# Altium schematic symbol library SparkFun-Resistors.SCHLIB: 269 symbols (part 1 of 3)
Pins are listed as number, name and electrical type; pins without a type are passive.

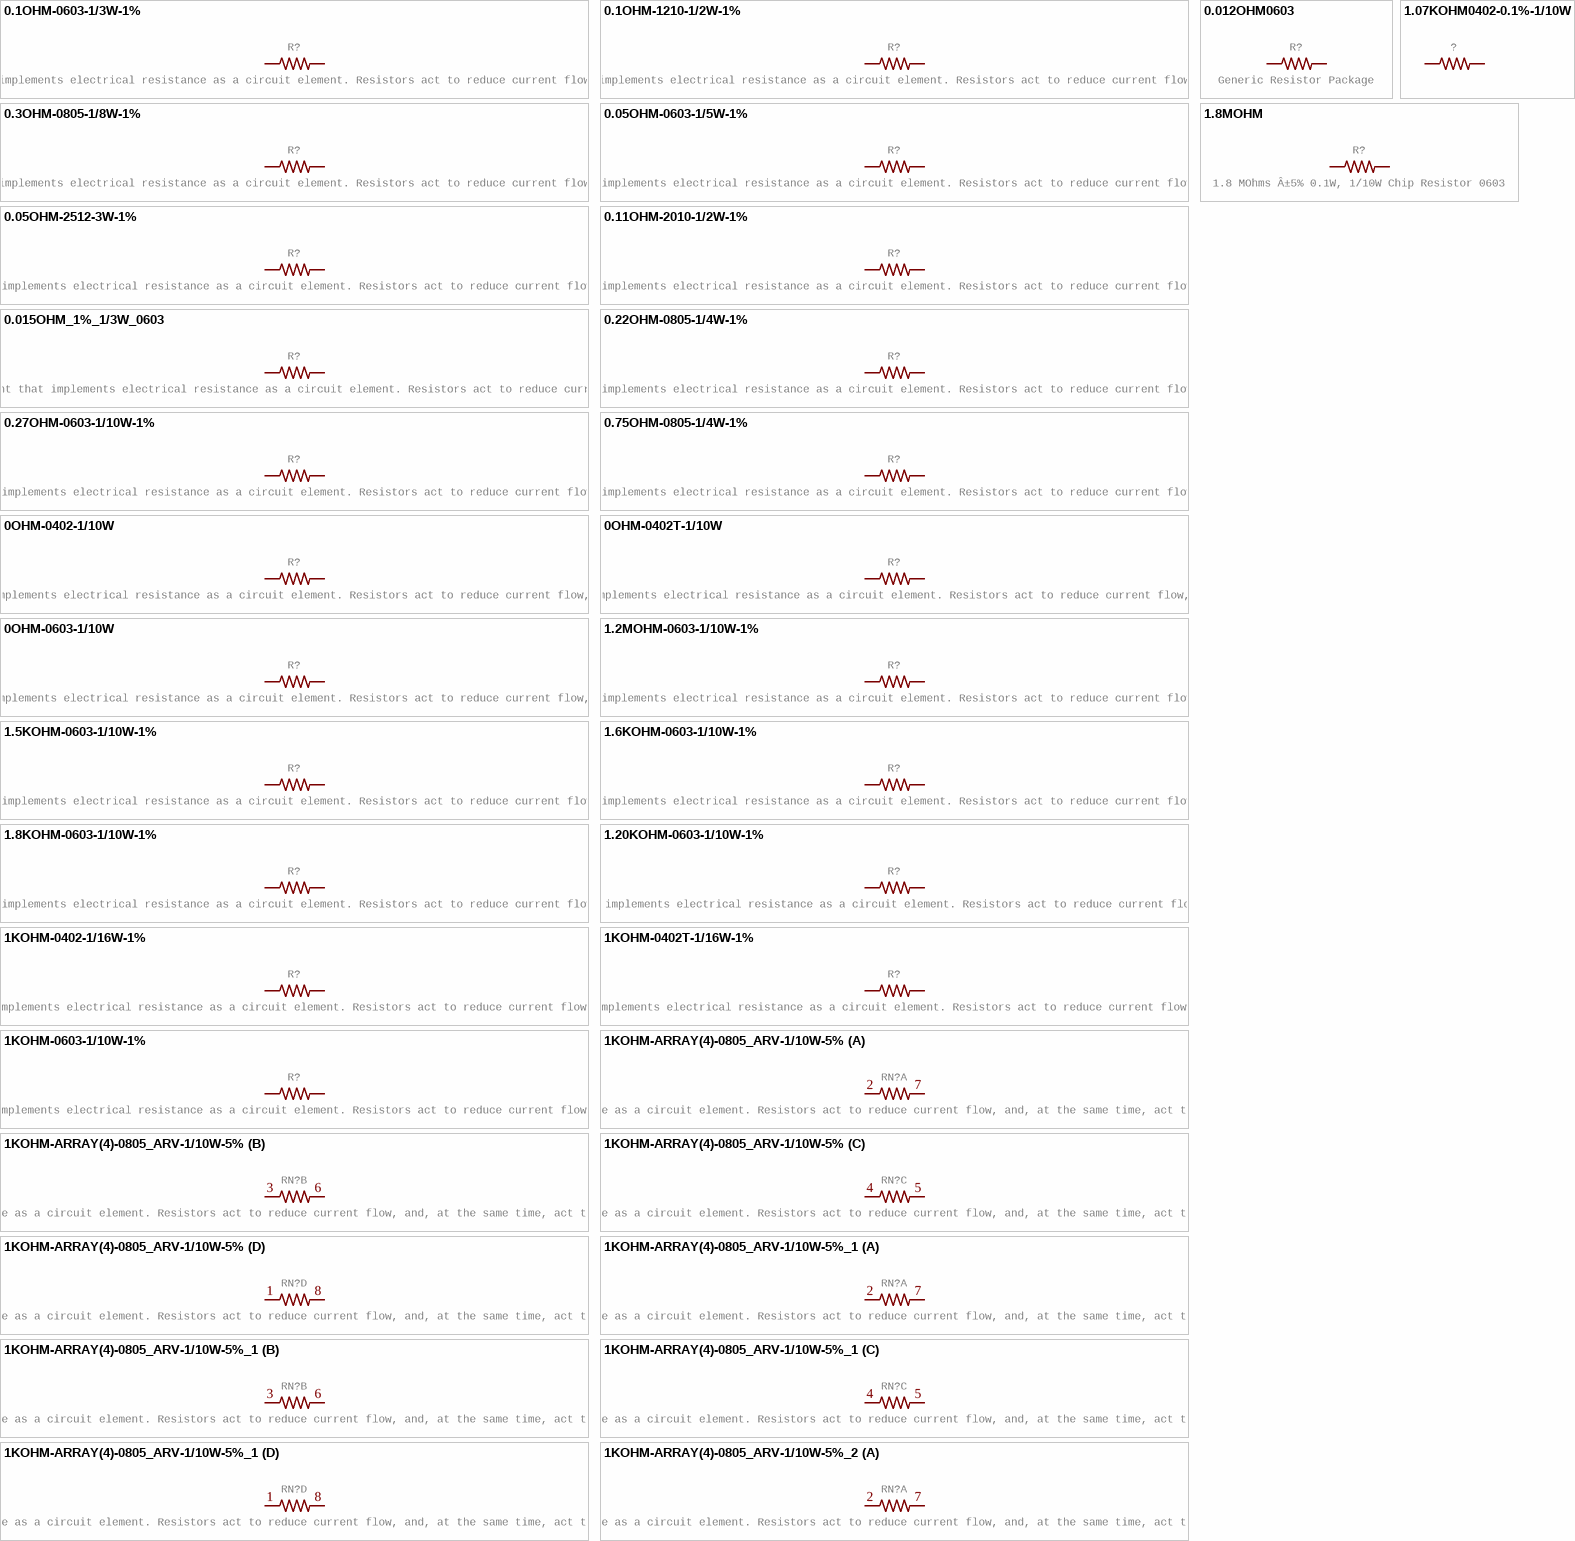
[diagram p0: symbols 0.1OHM-0603-1/3W-1% to 1KOHM-ARRAY(4)-0805_ARV-1/10W-5%_2]

## 0.1OHM-0603-1/3W-1%
designator R?, comment 0.1Î© resistor    A resistor is a passive two-terminal electrical component that implements electrical resistance as a circuit element. Resistors act to reduce current flow, and, at the same time, act to lower voltage levels within circuits. - Wikipedia
GateName_1: G$1; DeviceName: -0603-1/3W-1%; DeviceSetName: 0.1OHM; PROD_ID: RES-15715; SymbolName_1: RESISTOR; LibraryName: SparkFun-Resistors; Package: 0603
footprint 0603
pins: 1, 2

## 0.1OHM-1210-1/2W-1%
designator R?, comment 0.1Î© resistor    A resistor is a passive two-terminal electrical component that implements electrical resistance as a circuit element. Resistors act to reduce current flow, and, at the same time, act to lower voltage levels within circuits. - Wikipedia
GateName_1: G$1; DeviceName: -1210-1/2W-1%; DeviceSetName: 0.1OHM; PROD_ID: RES-12374; SymbolName_1: RESISTOR; LibraryName: SparkFun-Resistors; Package: 1210
footprint 1210
pins: 1, 2

## 0.3OHM-0805-1/8W-1%
designator R?, comment 0.3Î© resistor    A resistor is a passive two-terminal electrical component that implements electrical resistance as a circuit element. Resistors act to reduce current flow, and, at the same time, act to lower voltage levels within circuits. - Wikipedia
GateName_1: G$1; DeviceName: -0805-1/8W-1%; DeviceSetName: 0.3OHM; PROD_ID: RES-11622; SymbolName_1: RESISTOR; LibraryName: SparkFun-Resistors; Package: 0805
footprint 0805
pins: 1, 2

## 0.05OHM-0603-1/5W-1%
designator R?, comment 0.05Î© resistor    A resistor is a passive two-terminal electrical component that implements electrical resistance as a circuit element. Resistors act to reduce current flow, and, at the same time, act to lower voltage levels within circuits. - Wikipedia
GateName_1: G$1; DeviceName: -0603-1/5W-1%; DeviceSetName: 0.05OHM; PROD_ID: RES-12535; SymbolName_1: RESISTOR; LibraryName: SparkFun-Resistors; Package: 0603
footprint 0603
pins: 1, 2

## 0.05OHM-2512-3W-1%
designator R?, comment 0.05Î© resistor    A resistor is a passive two-terminal electrical component that implements electrical resistance as a circuit element. Resistors act to reduce current flow, and, at the same time, act to lower voltage levels within circuits. - Wikipedia
GateName_1: G$1; DeviceName: -2512-3W-1%; DeviceSetName: 0.05OHM; PROD_ID: RES-13771; SymbolName_1: RESISTOR; LibraryName: SparkFun-Resistors; Package: 2512
footprint 2512
pins: P$1 1, P$2 2

## 0.11OHM-2010-1/2W-1%
designator R?, comment 0.11Î© resistor    A resistor is a passive two-terminal electrical component that implements electrical resistance as a circuit element. Resistors act to reduce current flow, and, at the same time, act to lower voltage levels within circuits. - Wikipedia
GateName_1: G$1; DeviceName: -2010-1/2W-1%; DeviceSetName: 0.11OHM; PROD_ID: RES-08354; SymbolName_1: RESISTOR; LibraryName: SparkFun-Resistors; Package: 2010
footprint 2010
pins: 1, 2

## 0.012OHM0603
designator R?, comment Generic Resistor Package
GateName_1: G$1; DeviceName: 0603; DeviceSetName: 0.012OHM; PROD_ID: RES-14691; SymbolName_1: RESISTOR; LibraryName: SparkFun-Resistors; Package: 0603
footprint 0603
pins: 1, 2

## 0.015OHM_1%_1/3W_0603
designator R?, comment 0.015Î© resistor (aka 15mOhms)    A resistor is a passive two-terminal electrical component that implements electrical resistance as a circuit element. Resistors act to reduce current flow, and, at the same time, act to lower voltage levels within circuits. - Wikipedia
GateName_1: G$1; DeviceName: _1%_1/3W_0603; DeviceSetName: 0.015OHM; PROD_ID: RES-16305; SymbolName_1: RESISTOR; LibraryName: SparkFun-Resistors; Package: 0603
footprint 0603
pins: 1, 2

## 0.22OHM-0805-1/4W-1%
designator R?, comment 0.22Î© resistor    A resistor is a passive two-terminal electrical component that implements electrical resistance as a circuit element. Resistors act to reduce current flow, and, at the same time, act to lower voltage levels within circuits. - Wikipedia
GateName_1: G$1; DeviceName: -0805-1/4W-1%; DeviceSetName: 0.22OHM; PROD_ID: RES-09883; SymbolName_1: RESISTOR; LibraryName: SparkFun-Resistors; Package: 0805
footprint 0805
pins: 1, 2

## 0.27OHM-0603-1/10W-1%
designator R?, comment 0.27Î© resistor    A resistor is a passive two-terminal electrical component that implements electrical resistance as a circuit element. Resistors act to reduce current flow, and, at the same time, act to lower voltage levels within circuits. - Wikipedia
GateName_1: G$1; DeviceName: -0603-1/10W-1%; DeviceSetName: 0.27OHM; PROD_ID: RES-08787; SymbolName_1: RESISTOR; LibraryName: SparkFun-Resistors; Package: 0603
footprint 0603
pins: 1, 2

## 0.75OHM-0805-1/4W-1%
designator R?, comment 0.75Î© resistor    A resistor is a passive two-terminal electrical component that implements electrical resistance as a circuit element. Resistors act to reduce current flow, and, at the same time, act to lower voltage levels within circuits. - Wikipedia
GateName_1: G$1; DeviceName: -0805-1/4W-1%; DeviceSetName: 0.75OHM; PROD_ID: RES-08474; SymbolName_1: RESISTOR; LibraryName: SparkFun-Resistors; Package: 0805
footprint 0805
pins: 1, 2

## 0OHM-0402-1/10W
designator R?, comment 0Î© resistor    A resistor is a passive two-terminal electrical component that implements electrical resistance as a circuit element. Resistors act to reduce current flow, and, at the same time, act to lower voltage levels within circuits. - Wikipedia
GateName_1: G$1; DeviceName: -0402-1/10W; DeviceSetName: 0OHM; PROD_ID: RES-14244; SymbolName_1: RESISTOR; LibraryName: SparkFun-Resistors; Package: 0402
footprint 0402
pins: 1, 2

## 0OHM-0402T-1/10W
designator R?, comment 0Î© resistor    A resistor is a passive two-terminal electrical component that implements electrical resistance as a circuit element. Resistors act to reduce current flow, and, at the same time, act to lower voltage levels within circuits. - Wikipedia
GateName_1: G$1; DeviceName: -0402T-1/10W; DeviceSetName: 0OHM; PROD_ID: RES-14244; SymbolName_1: RESISTOR; LibraryName: SparkFun-Resistors; Package: 0402-TIGHT
footprint 0402-TIGHT
pins: 1, 2

## 0OHM-0603-1/10W
designator R?, comment 0Î© resistor    A resistor is a passive two-terminal electrical component that implements electrical resistance as a circuit element. Resistors act to reduce current flow, and, at the same time, act to lower voltage levels within circuits. - Wikipedia
GateName_1: G$1; DeviceName: -0603-1/10W; DeviceSetName: 0OHM; PROD_ID: RES-08609; SymbolName_1: RESISTOR; LibraryName: SparkFun-Resistors; Package: 0603
footprint 0603
pins: 1, 2

## 1.2MOHM-0603-1/10W-1%
designator R?, comment 1.2MÎ© resistor    A resistor is a passive two-terminal electrical component that implements electrical resistance as a circuit element. Resistors act to reduce current flow, and, at the same time, act to lower voltage levels within circuits. - Wikipedia
GateName_1: G$1; DeviceName: -0603-1/10W-1%; DeviceSetName: 1.2MOHM; PROD_ID: RES-10055; SymbolName_1: RESISTOR; LibraryName: SparkFun-Resistors; Package: 0603
footprint 0603
pins: 1, 2

## 1.5KOHM-0603-1/10W-1%
designator R?, comment 1.5kÎ© resistor    A resistor is a passive two-terminal electrical component that implements electrical resistance as a circuit element. Resistors act to reduce current flow, and, at the same time, act to lower voltage levels within circuits. - Wikipedia
GateName_1: G$1; DeviceName: -0603-1/10W-1%; DeviceSetName: 1.5KOHM; PROD_ID: RES-08306; SymbolName_1: RESISTOR; LibraryName: SparkFun-Resistors; Package: 0603
footprint 0603
pins: 1, 2

## 1.6KOHM-0603-1/10W-1%
designator R?, comment 1.6kÎ© resistor    A resistor is a passive two-terminal electrical component that implements electrical resistance as a circuit element. Resistors act to reduce current flow, and, at the same time, act to lower voltage levels within circuits. - Wikipedia
GateName_1: G$1; DeviceName: -0603-1/10W-1%; DeviceSetName: 1.6KOHM; PROD_ID: RES-08361; SymbolName_1: RESISTOR; LibraryName: SparkFun-Resistors; Package: 0603
footprint 0603
pins: 1, 2

## 1.07KOHM0402-0.1%-1/10W
designator ?
GateName_1: G$1; SymbolName_1: RESISTOR; DeviceName: 0402-0.1%-1/10W; DeviceSetName: 1.07KOHM; PROD_ID: RES-16146; LibraryName: SparkFun-Resistors; Package: 0402-TIGHT
footprint 0402-TIGHT
pins: 1, 2

## 1.8KOHM-0603-1/10W-1%
designator R?, comment 1.8kÎ© resistor    A resistor is a passive two-terminal electrical component that implements electrical resistance as a circuit element. Resistors act to reduce current flow, and, at the same time, act to lower voltage levels within circuits. - Wikipedia
GateName_1: G$1; DeviceName: -0603-1/10W-1%; DeviceSetName: 1.8KOHM; PROD_ID: RES-09119; SymbolName_1: RESISTOR; LibraryName: SparkFun-Resistors; Package: 0603
footprint 0603
pins: 1, 2

## 1.8MOHM
designator R?, comment 1.8 MOhms Â±5% 0.1W, 1/10W Chip Resistor 0603
GateName_1: G$1; PROD_ID: RES-13994; SymbolName_1: RESISTOR; LibraryName: SparkFun-Resistors; DeviceSetName: 1.8MOHM; Package: 0603
footprint 0603
pins: 1, 2

## 1.20KOHM-0603-1/10W-1%
designator R?, comment 1.20kÎ© resistor    A resistor is a passive two-terminal electrical component that implements electrical resistance as a circuit element. Resistors act to reduce current flow, and, at the same time, act to lower voltage levels within circuits. - Wikipedia
GateName_1: G$1; DeviceName: -0603-1/10W-1%; DeviceSetName: 1.20KOHM; PROD_ID: RES-08413; SymbolName_1: RESISTOR; LibraryName: SparkFun-Resistors; Package: 0603
footprint 0603
pins: 1, 2

## 1KOHM-0402-1/16W-1%
designator R?, comment 1kÎ© resistor    A resistor is a passive two-terminal electrical component that implements electrical resistance as a circuit element. Resistors act to reduce current flow, and, at the same time, act to lower voltage levels within circuits. - Wikipedia
GateName_1: G$1; DeviceName: -0402-1/16W-1%; DeviceSetName: 1KOHM; PROD_ID: RES-14342; SymbolName_1: RESISTOR; LibraryName: SparkFun-Resistors; Package: 0402
footprint 0402
pins: 1, 2

## 1KOHM-0402T-1/16W-1%
designator R?, comment 1kÎ© resistor    A resistor is a passive two-terminal electrical component that implements electrical resistance as a circuit element. Resistors act to reduce current flow, and, at the same time, act to lower voltage levels within circuits. - Wikipedia
GateName_1: G$1; DeviceName: -0402T-1/16W-1%; DeviceSetName: 1KOHM; PROD_ID: RES-14342; SymbolName_1: RESISTOR; LibraryName: SparkFun-Resistors; Package: 0402-TIGHT
footprint 0402-TIGHT
pins: 1, 2

## 1KOHM-0603-1/10W-1%
designator R?, comment 1kÎ© resistor    A resistor is a passive two-terminal electrical component that implements electrical resistance as a circuit element. Resistors act to reduce current flow, and, at the same time, act to lower voltage levels within circuits. - Wikipedia
GateName_1: G$1; DeviceName: -0603-1/10W-1%; DeviceSetName: 1KOHM; PROD_ID: RES-07856; SymbolName_1: RESISTOR; LibraryName: SparkFun-Resistors; Package: 0603
footprint 0603
pins: 1, 2

## 1KOHM-ARRAY(4)-0805_ARV-1/10W-5%
designator RN?, comment 4 x 1kÎ© resistor array    A resistor is a passive two-terminal electrical component that implements electrical resistance as a circuit element. Resistors act to reduce current flow, and, at the same time, act to lower voltage levels within circuits. - Wikipedia   An array is a collection of discrete resistors in a single package.
GateName_1: B; SymbolName_1: RESISTOR-PADS; GateName_2: C; GateName_3: D; DeviceName: -0805_ARV-1/10W-5%; DeviceSetName: 1KOHM-ARRAY(4); PROD_ID: RES-13020; SymbolName_2: RESISTOR-PADS; SymbolName_3: RESISTOR-PADS; GateName_4: A; SymbolName_4: RESISTOR-PADS; LibraryName: SparkFun-Resistors; Package: 0805-ARV
footprint 0805-ARV
part A pins: 2 1, 7 2
part B pins: 3 1, 6 2
part C pins: 4 1, 5 2
part D pins: 1, 8 2

## 1KOHM-ARRAY(4)-0805_ARV-1/10W-5%_1
designator RN?, comment 4 x 1kÎ© resistor array    A resistor is a passive two-terminal electrical component that implements electrical resistance as a circuit element. Resistors act to reduce current flow, and, at the same time, act to lower voltage levels within circuits. - Wikipedia   An array is a collection of discrete resistors in a single package.
GateName_1: B; SymbolName_1: RESISTOR-PADS; GateName_2: C; GateName_3: D; DeviceName: -0805_ARV-1/10W-5%; DeviceSetName: 1KOHM-ARRAY(4); PROD_ID: RES-13020; SymbolName_2: RESISTOR-PADS; SymbolName_3: RESISTOR-PADS; GateName_4: A; SymbolName_4: RESISTOR-PADS; LibraryName: SparkFun-Resistors; Package: 0805-ARV
footprint 0805-ARV
part A pins: 2 1, 7 2
part B pins: 3 1, 6 2
part C pins: 4 1, 5 2
part D pins: 1, 8 2

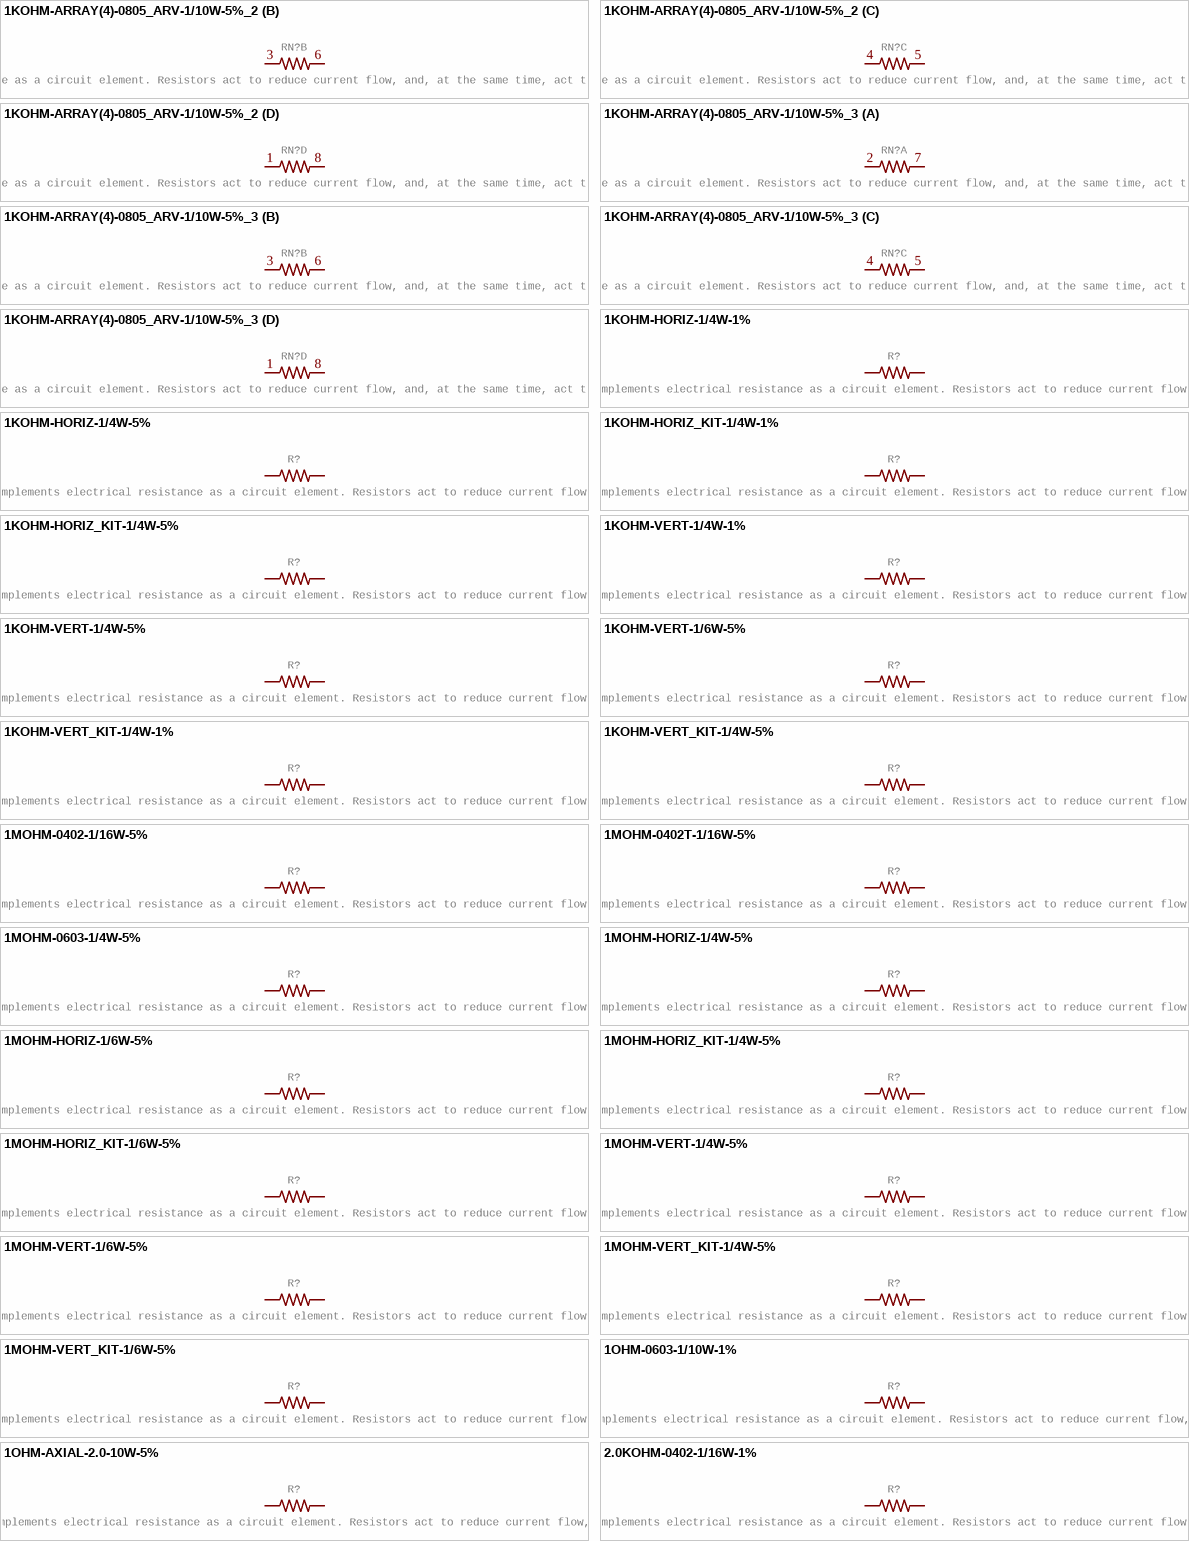
[diagram p1: symbols 1KOHM-ARRAY(4)-0805_ARV-1/10W-5%_2 to 2.0KOHM-0402-1/16W-1%]

## 1KOHM-ARRAY(4)-0805_ARV-1/10W-5%_2
designator RN?, comment 4 x 1kÎ© resistor array    A resistor is a passive two-terminal electrical component that implements electrical resistance as a circuit element. Resistors act to reduce current flow, and, at the same time, act to lower voltage levels within circuits. - Wikipedia   An array is a collection of discrete resistors in a single package.
GateName_1: B; SymbolName_1: RESISTOR-PADS; GateName_2: C; GateName_3: D; DeviceName: -0805_ARV-1/10W-5%; DeviceSetName: 1KOHM-ARRAY(4); PROD_ID: RES-13020; SymbolName_2: RESISTOR-PADS; SymbolName_3: RESISTOR-PADS; GateName_4: A; SymbolName_4: RESISTOR-PADS; LibraryName: SparkFun-Resistors; Package: 0805-ARV
footprint 0805-ARV
part A pins: 2 1, 7 2
part B pins: 3 1, 6 2
part C pins: 4 1, 5 2
part D pins: 1, 8 2

## 1KOHM-ARRAY(4)-0805_ARV-1/10W-5%_3
designator RN?, comment 4 x 1kÎ© resistor array    A resistor is a passive two-terminal electrical component that implements electrical resistance as a circuit element. Resistors act to reduce current flow, and, at the same time, act to lower voltage levels within circuits. - Wikipedia   An array is a collection of discrete resistors in a single package.
GateName_1: B; SymbolName_1: RESISTOR-PADS; GateName_2: C; GateName_3: D; DeviceName: -0805_ARV-1/10W-5%; DeviceSetName: 1KOHM-ARRAY(4); PROD_ID: RES-13020; SymbolName_2: RESISTOR-PADS; SymbolName_3: RESISTOR-PADS; GateName_4: A; SymbolName_4: RESISTOR-PADS; LibraryName: SparkFun-Resistors; Package: 0805-ARV
footprint 0805-ARV
part A pins: 2 1, 7 2
part B pins: 3 1, 6 2
part C pins: 4 1, 5 2
part D pins: 1, 8 2

## 1KOHM-HORIZ-1/4W-1%
designator R?, comment 1kÎ© resistor    A resistor is a passive two-terminal electrical component that implements electrical resistance as a circuit element. Resistors act to reduce current flow, and, at the same time, act to lower voltage levels within circuits. - Wikipedia
GateName_1: G$1; DeviceName: -HORIZ-1/4W-1%; DeviceSetName: 1KOHM; PROD_ID: RES-12182; SymbolName_1: RESISTOR; LibraryName: SparkFun-Resistors; Package: AXIAL-0.3
footprint AXIAL-0.3
pins: P$1 1, P$2 2

## 1KOHM-HORIZ-1/4W-5%
designator R?, comment 1kÎ© resistor    A resistor is a passive two-terminal electrical component that implements electrical resistance as a circuit element. Resistors act to reduce current flow, and, at the same time, act to lower voltage levels within circuits. - Wikipedia
GateName_1: G$1; DeviceName: -HORIZ-1/4W-5%; DeviceSetName: 1KOHM; PROD_ID: RES-08380; SymbolName_1: RESISTOR; LibraryName: SparkFun-Resistors; Package: AXIAL-0.3
footprint AXIAL-0.3
pins: P$1 1, P$2 2

## 1KOHM-HORIZ_KIT-1/4W-1%
designator R?, comment 1kÎ© resistor    A resistor is a passive two-terminal electrical component that implements electrical resistance as a circuit element. Resistors act to reduce current flow, and, at the same time, act to lower voltage levels within circuits. - Wikipedia
GateName_1: G$1; DeviceName: -HORIZ_KIT-1/4W-1%; DeviceSetName: 1KOHM; PROD_ID: RES-12182; SymbolName_1: RESISTOR; LibraryName: SparkFun-Resistors; Package: AXIAL-0.3-KIT
footprint AXIAL-0.3-KIT
pins: P$1 1, P$2 2

## 1KOHM-HORIZ_KIT-1/4W-5%
designator R?, comment 1kÎ© resistor    A resistor is a passive two-terminal electrical component that implements electrical resistance as a circuit element. Resistors act to reduce current flow, and, at the same time, act to lower voltage levels within circuits. - Wikipedia
GateName_1: G$1; DeviceName: -HORIZ_KIT-1/4W-5%; DeviceSetName: 1KOHM; PROD_ID: RES-08380; SymbolName_1: RESISTOR; LibraryName: SparkFun-Resistors; Package: AXIAL-0.3-KIT
footprint AXIAL-0.3-KIT
pins: P$1 1, P$2 2

## 1KOHM-VERT-1/4W-1%
designator R?, comment 1kÎ© resistor    A resistor is a passive two-terminal electrical component that implements electrical resistance as a circuit element. Resistors act to reduce current flow, and, at the same time, act to lower voltage levels within circuits. - Wikipedia
GateName_1: G$1; DeviceName: -VERT-1/4W-1%; DeviceSetName: 1KOHM; PROD_ID: RES-12182; SymbolName_1: RESISTOR; LibraryName: SparkFun-Resistors; Package: AXIAL-0.1
footprint AXIAL-0.1
pins: P$1 1, P$2 2

## 1KOHM-VERT-1/4W-5%
designator R?, comment 1kÎ© resistor    A resistor is a passive two-terminal electrical component that implements electrical resistance as a circuit element. Resistors act to reduce current flow, and, at the same time, act to lower voltage levels within circuits. - Wikipedia
GateName_1: G$1; DeviceName: -VERT-1/4W-5%; DeviceSetName: 1KOHM; PROD_ID: RES-08380; SymbolName_1: RESISTOR; LibraryName: SparkFun-Resistors; Package: AXIAL-0.1
footprint AXIAL-0.1
pins: P$1 1, P$2 2

## 1KOHM-VERT-1/6W-5%
designator R?, comment 1kÎ© resistor    A resistor is a passive two-terminal electrical component that implements electrical resistance as a circuit element. Resistors act to reduce current flow, and, at the same time, act to lower voltage levels within circuits. - Wikipedia
GateName_1: G$1; DeviceName: -VERT-1/6W-5%; DeviceSetName: 1KOHM; PROD_ID: RES-09769; SymbolName_1: RESISTOR; LibraryName: SparkFun-Resistors; Package: AXIAL-0.1
footprint AXIAL-0.1
pins: P$1 1, P$2 2

## 1KOHM-VERT_KIT-1/4W-1%
designator R?, comment 1kÎ© resistor    A resistor is a passive two-terminal electrical component that implements electrical resistance as a circuit element. Resistors act to reduce current flow, and, at the same time, act to lower voltage levels within circuits. - Wikipedia
GateName_1: G$1; DeviceName: -VERT_KIT-1/4W-1%; DeviceSetName: 1KOHM; PROD_ID: RES-12182; SymbolName_1: RESISTOR; LibraryName: SparkFun-Resistors; Package: AXIAL-0.1-KIT
footprint AXIAL-0.1-KIT
pins: P$1 1, P$2 2

## 1KOHM-VERT_KIT-1/4W-5%
designator R?, comment 1kÎ© resistor    A resistor is a passive two-terminal electrical component that implements electrical resistance as a circuit element. Resistors act to reduce current flow, and, at the same time, act to lower voltage levels within circuits. - Wikipedia
GateName_1: G$1; DeviceName: -VERT_KIT-1/4W-5%; DeviceSetName: 1KOHM; PROD_ID: RES-08380; SymbolName_1: RESISTOR; LibraryName: SparkFun-Resistors; Package: AXIAL-0.1-KIT
footprint AXIAL-0.1-KIT
pins: P$1 1, P$2 2

## 1MOHM-0402-1/16W-5%
designator R?, comment 1MÎ© resistor    A resistor is a passive two-terminal electrical component that implements electrical resistance as a circuit element. Resistors act to reduce current flow, and, at the same time, act to lower voltage levels within circuits. - Wikipedia
GateName_1: G$1; DeviceName: -0402-1/16W-5%; DeviceSetName: 1MOHM; PROD_ID: RES-15185; SymbolName_1: RESISTOR; LibraryName: SparkFun-Resistors; Package: 0402
footprint 0402
pins: 1, 2

## 1MOHM-0402T-1/16W-5%
designator R?, comment 1MÎ© resistor    A resistor is a passive two-terminal electrical component that implements electrical resistance as a circuit element. Resistors act to reduce current flow, and, at the same time, act to lower voltage levels within circuits. - Wikipedia
GateName_1: G$1; DeviceName: -0402T-1/16W-5%; DeviceSetName: 1MOHM; PROD_ID: RES-15185; SymbolName_1: RESISTOR; LibraryName: SparkFun-Resistors; Package: 0402-TIGHT
footprint 0402-TIGHT
pins: 1, 2

## 1MOHM-0603-1/4W-5%
designator R?, comment 1MÎ© resistor    A resistor is a passive two-terminal electrical component that implements electrical resistance as a circuit element. Resistors act to reduce current flow, and, at the same time, act to lower voltage levels within circuits. - Wikipedia
GateName_1: G$1; DeviceName: -0603-1/4W-5%; DeviceSetName: 1MOHM; PROD_ID: RES-07868; SymbolName_1: RESISTOR; LibraryName: SparkFun-Resistors; Package: 0603
footprint 0603
pins: 1, 2

## 1MOHM-HORIZ-1/4W-5%
designator R?, comment 1MÎ© resistor    A resistor is a passive two-terminal electrical component that implements electrical resistance as a circuit element. Resistors act to reduce current flow, and, at the same time, act to lower voltage levels within circuits. - Wikipedia
GateName_1: G$1; DeviceName: -HORIZ-1/4W-5%; DeviceSetName: 1MOHM; PROD_ID: RES-09329; SymbolName_1: RESISTOR; LibraryName: SparkFun-Resistors; Package: AXIAL-0.3
footprint AXIAL-0.3
pins: P$1 1, P$2 2

## 1MOHM-HORIZ-1/6W-5%
designator R?, comment 1MÎ© resistor    A resistor is a passive two-terminal electrical component that implements electrical resistance as a circuit element. Resistors act to reduce current flow, and, at the same time, act to lower voltage levels within circuits. - Wikipedia
GateName_1: G$1; DeviceName: -HORIZ-1/6W-5%; DeviceSetName: 1MOHM; PROD_ID: RES-09559; SymbolName_1: RESISTOR; LibraryName: SparkFun-Resistors; Package: AXIAL-0.3
footprint AXIAL-0.3
pins: P$1 1, P$2 2

## 1MOHM-HORIZ_KIT-1/4W-5%
designator R?, comment 1MÎ© resistor    A resistor is a passive two-terminal electrical component that implements electrical resistance as a circuit element. Resistors act to reduce current flow, and, at the same time, act to lower voltage levels within circuits. - Wikipedia
GateName_1: G$1; DeviceName: -HORIZ_KIT-1/4W-5%; DeviceSetName: 1MOHM; PROD_ID: RES-09329; SymbolName_1: RESISTOR; LibraryName: SparkFun-Resistors; Package: AXIAL-0.3-KIT
footprint AXIAL-0.3-KIT
pins: P$1 1, P$2 2

## 1MOHM-HORIZ_KIT-1/6W-5%
designator R?, comment 1MÎ© resistor    A resistor is a passive two-terminal electrical component that implements electrical resistance as a circuit element. Resistors act to reduce current flow, and, at the same time, act to lower voltage levels within circuits. - Wikipedia
GateName_1: G$1; DeviceName: -HORIZ_KIT-1/6W-5%; DeviceSetName: 1MOHM; PROD_ID: RES-09559; SymbolName_1: RESISTOR; LibraryName: SparkFun-Resistors; Package: AXIAL-0.3-KIT
footprint AXIAL-0.3-KIT
pins: P$1 1, P$2 2

## 1MOHM-VERT-1/4W-5%
designator R?, comment 1MÎ© resistor    A resistor is a passive two-terminal electrical component that implements electrical resistance as a circuit element. Resistors act to reduce current flow, and, at the same time, act to lower voltage levels within circuits. - Wikipedia
GateName_1: G$1; DeviceName: -VERT-1/4W-5%; DeviceSetName: 1MOHM; PROD_ID: RES-09329; SymbolName_1: RESISTOR; LibraryName: SparkFun-Resistors; Package: AXIAL-0.1
footprint AXIAL-0.1
pins: P$1 1, P$2 2

## 1MOHM-VERT-1/6W-5%
designator R?, comment 1MÎ© resistor    A resistor is a passive two-terminal electrical component that implements electrical resistance as a circuit element. Resistors act to reduce current flow, and, at the same time, act to lower voltage levels within circuits. - Wikipedia
GateName_1: G$1; DeviceName: -VERT-1/6W-5%; DeviceSetName: 1MOHM; PROD_ID: RES-09559; SymbolName_1: RESISTOR; LibraryName: SparkFun-Resistors; Package: AXIAL-0.1
footprint AXIAL-0.1
pins: P$1 1, P$2 2

## 1MOHM-VERT_KIT-1/4W-5%
designator R?, comment 1MÎ© resistor    A resistor is a passive two-terminal electrical component that implements electrical resistance as a circuit element. Resistors act to reduce current flow, and, at the same time, act to lower voltage levels within circuits. - Wikipedia
GateName_1: G$1; DeviceName: -VERT_KIT-1/4W-5%; DeviceSetName: 1MOHM; PROD_ID: RES-09329; SymbolName_1: RESISTOR; LibraryName: SparkFun-Resistors; Package: AXIAL-0.1-KIT
footprint AXIAL-0.1-KIT
pins: P$1 1, P$2 2

## 1MOHM-VERT_KIT-1/6W-5%
designator R?, comment 1MÎ© resistor    A resistor is a passive two-terminal electrical component that implements electrical resistance as a circuit element. Resistors act to reduce current flow, and, at the same time, act to lower voltage levels within circuits. - Wikipedia
GateName_1: G$1; DeviceName: -VERT_KIT-1/6W-5%; DeviceSetName: 1MOHM; PROD_ID: RES-09559; SymbolName_1: RESISTOR; LibraryName: SparkFun-Resistors; Package: AXIAL-0.1-KIT
footprint AXIAL-0.1-KIT
pins: P$1 1, P$2 2

## 1OHM-0603-1/10W-1%
designator R?, comment 1Î© resistor    A resistor is a passive two-terminal electrical component that implements electrical resistance as a circuit element. Resistors act to reduce current flow, and, at the same time, act to lower voltage levels within circuits. - Wikipedia
GateName_1: G$1; DeviceName: -0603-1/10W-1%; DeviceSetName: 1OHM; PROD_ID: RES-08269; SymbolName_1: RESISTOR; LibraryName: SparkFun-Resistors; Package: 0603
footprint 0603
pins: 1, 2

## 1OHM-AXIAL-2.0-10W-5%
designator R?, comment 1Î© resistor    A resistor is a passive two-terminal electrical component that implements electrical resistance as a circuit element. Resistors act to reduce current flow, and, at the same time, act to lower voltage levels within circuits. - Wikipedia
GateName_1: G$1; DeviceName: -AXIAL-2.0-10W-5%; DeviceSetName: 1OHM; SymbolName_1: RESISTOR; LibraryName: SparkFun-Resistors; Package: AXIAL-2.0
footprint AXIAL-2.0
pins: P$1 1, P$2 2

## 2.0KOHM-0402-1/16W-1%
designator R?, comment 2kÎ© resistor    A resistor is a passive two-terminal electrical component that implements electrical resistance as a circuit element. Resistors act to reduce current flow, and, at the same time, act to lower voltage levels within circuits. - Wikipedia
GateName_1: G$1; DeviceName: -0402-1/16W-1%; DeviceSetName: 2.0KOHM; PROD_ID: RES-15406; SymbolName_1: RESISTOR; LibraryName: SparkFun-Resistors; Package: 0402
footprint 0402
pins: 1, 2

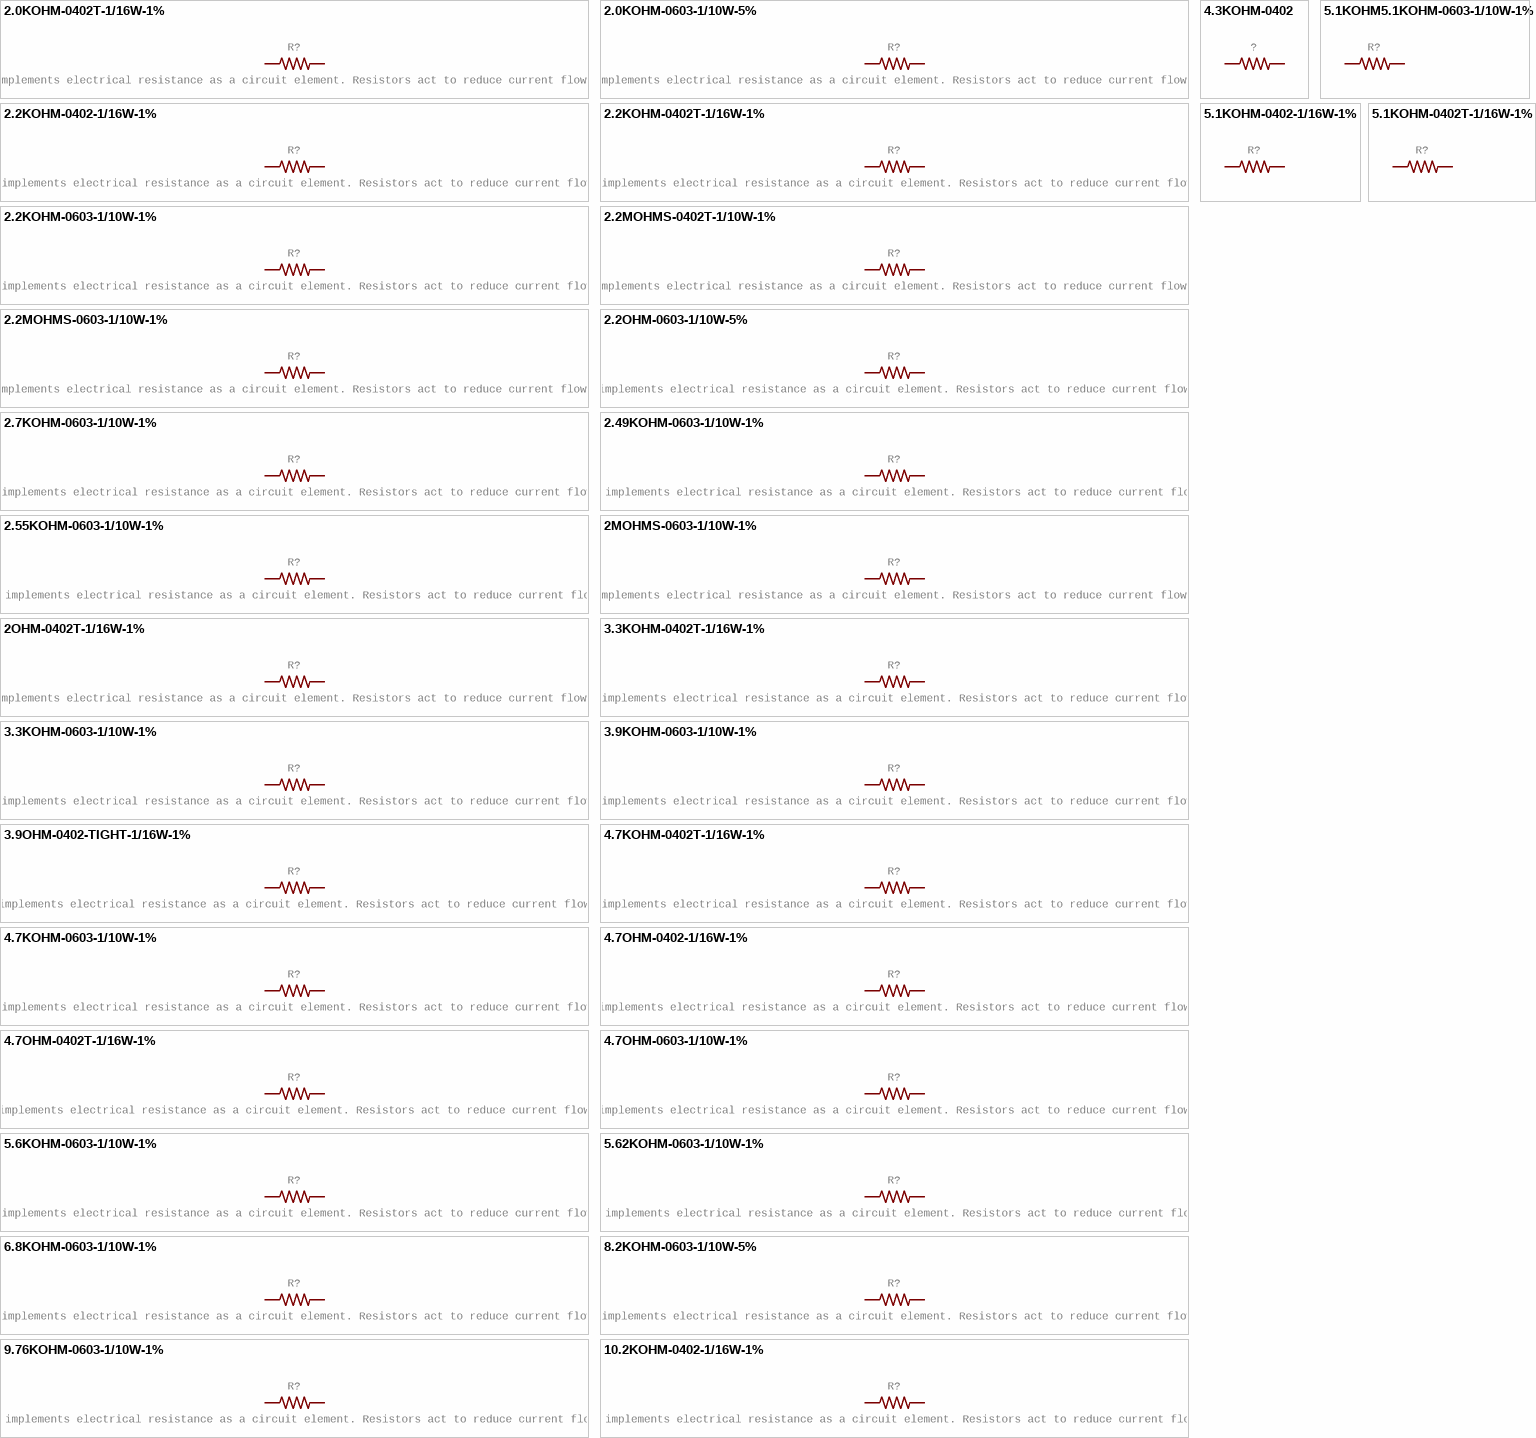
[diagram p2: symbols 2.0KOHM-0402T-1/16W-1% to 10.2KOHM-0402-1/16W-1%]

## 2.0KOHM-0402T-1/16W-1%
designator R?, comment 2kÎ© resistor    A resistor is a passive two-terminal electrical component that implements electrical resistance as a circuit element. Resistors act to reduce current flow, and, at the same time, act to lower voltage levels within circuits. - Wikipedia
GateName_1: G$1; DeviceName: -0402T-1/16W-1%; DeviceSetName: 2.0KOHM; PROD_ID: RES-15406; SymbolName_1: RESISTOR; LibraryName: SparkFun-Resistors; Package: 0402-TIGHT
footprint 0402-TIGHT
pins: 1, 2

## 2.0KOHM-0603-1/10W-5%
designator R?, comment 2kÎ© resistor    A resistor is a passive two-terminal electrical component that implements electrical resistance as a circuit element. Resistors act to reduce current flow, and, at the same time, act to lower voltage levels within circuits. - Wikipedia
GateName_1: G$1; DeviceName: -0603-1/10W-5%; DeviceSetName: 2.0KOHM; PROD_ID: RES-08296; SymbolName_1: RESISTOR; LibraryName: SparkFun-Resistors; Package: 0603
footprint 0603
pins: 1, 2

## 2.2KOHM-0402-1/16W-1%
designator R?, comment 2.2kÎ© resistor    A resistor is a passive two-terminal electrical component that implements electrical resistance as a circuit element. Resistors act to reduce current flow, and, at the same time, act to lower voltage levels within circuits. - Wikipedia
GateName_1: G$1; DeviceName: -0402-1/16W-1%; DeviceSetName: 2.2KOHM; PROD_ID: RES-14341; SymbolName_1: RESISTOR; LibraryName: SparkFun-Resistors; Package: 0402
footprint 0402
pins: 1, 2

## 2.2KOHM-0402T-1/16W-1%
designator R?, comment 2.2kÎ© resistor    A resistor is a passive two-terminal electrical component that implements electrical resistance as a circuit element. Resistors act to reduce current flow, and, at the same time, act to lower voltage levels within circuits. - Wikipedia
GateName_1: G$1; DeviceName: -0402T-1/16W-1%; DeviceSetName: 2.2KOHM; PROD_ID: RES-14341; SymbolName_1: RESISTOR; LibraryName: SparkFun-Resistors; Package: 0402-TIGHT
footprint 0402-TIGHT
pins: 1, 2

## 2.2KOHM-0603-1/10W-1%
designator R?, comment 2.2kÎ© resistor    A resistor is a passive two-terminal electrical component that implements electrical resistance as a circuit element. Resistors act to reduce current flow, and, at the same time, act to lower voltage levels within circuits. - Wikipedia
GateName_1: G$1; DeviceName: -0603-1/10W-1%; DeviceSetName: 2.2KOHM; PROD_ID: RES-08272; SymbolName_1: RESISTOR; LibraryName: SparkFun-Resistors; Package: 0603
footprint 0603
pins: 1, 2

## 2.2MOHMS-0402T-1/10W-1%
designator R?, comment 2MÎ© resistor    A resistor is a passive two-terminal electrical component that implements electrical resistance as a circuit element. Resistors act to reduce current flow, and, at the same time, act to lower voltage levels within circuits. - Wikipedia
GateName_1: G$1; DeviceName: -0402T-1/10W-1%; DeviceSetName: 2.2MOHMS; PROD_ID: RES-14844; SymbolName_1: RESISTOR; LibraryName: SparkFun-Resistors; Package: 0402-TIGHT
footprint 0402-TIGHT
pins: 1, 2

## 2.2MOHMS-0603-1/10W-1%
designator R?, comment 2MÎ© resistor    A resistor is a passive two-terminal electrical component that implements electrical resistance as a circuit element. Resistors act to reduce current flow, and, at the same time, act to lower voltage levels within circuits. - Wikipedia
GateName_1: G$1; DeviceName: -0603-1/10W-1%; DeviceSetName: 2.2MOHMS; PROD_ID: RES-10054; SymbolName_1: RESISTOR; LibraryName: SparkFun-Resistors; Package: 0603
footprint 0603
pins: 1, 2

## 2.2OHM-0603-1/10W-5%
designator R?, comment 2.2Î© resistor    A resistor is a passive two-terminal electrical component that implements electrical resistance as a circuit element. Resistors act to reduce current flow, and, at the same time, act to lower voltage levels within circuits. - Wikipedia
GateName_1: G$1; DeviceName: -0603-1/10W-5%; DeviceSetName: 2.2OHM; PROD_ID: RES-07823; SymbolName_1: RESISTOR; LibraryName: SparkFun-Resistors; Package: 0603
footprint 0603
pins: 1, 2

## 2.7KOHM-0603-1/10W-1%
designator R?, comment 2.7kÎ© resistor    A resistor is a passive two-terminal electrical component that implements electrical resistance as a circuit element. Resistors act to reduce current flow, and, at the same time, act to lower voltage levels within circuits. - Wikipedia
GateName_1: G$1; DeviceName: -0603-1/10W-1%; DeviceSetName: 2.7KOHM; PROD_ID: RES-16714; SymbolName_1: RESISTOR; LibraryName: SparkFun-Resistors; Package: 0603
footprint 0603
pins: 1, 2

## 2.49KOHM-0603-1/10W-1%
designator R?, comment 2.49kÎ© resistor    A resistor is a passive two-terminal electrical component that implements electrical resistance as a circuit element. Resistors act to reduce current flow, and, at the same time, act to lower voltage levels within circuits. - Wikipedia
GateName_1: G$1; DeviceName: -0603-1/10W-1%; DeviceSetName: 2.49KOHM; PROD_ID: RES-09568; SymbolName_1: RESISTOR; LibraryName: SparkFun-Resistors; Package: 0603
footprint 0603
pins: 1, 2

## 2.55KOHM-0603-1/10W-1%
designator R?, comment 2.55kÎ© resistor    A resistor is a passive two-terminal electrical component that implements electrical resistance as a circuit element. Resistors act to reduce current flow, and, at the same time, act to lower voltage levels within circuits. - Wikipedia
GateName_1: G$1; DeviceName: -0603-1/10W-1%; DeviceSetName: 2.55KOHM; PROD_ID: RES-11227; SymbolName_1: RESISTOR; LibraryName: SparkFun-Resistors; Package: 0603
footprint 0603
pins: 1, 2

## 2MOHMS-0603-1/10W-1%
designator R?, comment 2MÎ© resistor    A resistor is a passive two-terminal electrical component that implements electrical resistance as a circuit element. Resistors act to reduce current flow, and, at the same time, act to lower voltage levels within circuits. - Wikipedia
GateName_1: G$1; DeviceName: -0603-1/10W-1%; DeviceSetName: 2MOHMS; PROD_ID: RES-10054; SymbolName_1: RESISTOR; LibraryName: SparkFun-Resistors; Package: 0603
footprint 0603
pins: 1, 2

## 2OHM-0402T-1/16W-1%
designator R?, comment 2 Î© resistor    A resistor is a passive two-terminal electrical component that implements electrical resistance as a circuit element. Resistors act to reduce current flow, and, at the same time, act to lower voltage levels within circuits. - Wikipedia
GateName_1: G$1; DeviceName: -0402T-1/16W-1%; DeviceSetName: 2OHM; PROD_ID: RES-15724; SymbolName_1: RESISTOR; LibraryName: SparkFun-Resistors; Package: 0402-TIGHT
footprint 0402-TIGHT
pins: 1, 2

## 3.3KOHM-0402T-1/16W-1%
designator R?, comment 3.3kÎ© resistor    A resistor is a passive two-terminal electrical component that implements electrical resistance as a circuit element. Resistors act to reduce current flow, and, at the same time, act to lower voltage levels within circuits. - Wikipedia
GateName_1: G$1; DeviceName: -0402T-1/16W-1%; DeviceSetName: 3.3KOHM; PROD_ID: RES-15923; SymbolName_1: RESISTOR; LibraryName: SparkFun-Resistors; Package: 0402-TIGHT
footprint 0402-TIGHT
pins: 1, 2

## 3.3KOHM-0603-1/10W-1%
designator R?, comment 3.3kÎ© resistor    A resistor is a passive two-terminal electrical component that implements electrical resistance as a circuit element. Resistors act to reduce current flow, and, at the same time, act to lower voltage levels within circuits. - Wikipedia
GateName_1: G$1; DeviceName: -0603-1/10W-1%; DeviceSetName: 3.3KOHM; PROD_ID: RES-07851; SymbolName_1: RESISTOR; LibraryName: SparkFun-Resistors; Package: 0603
footprint 0603
pins: 1, 2

## 3.9KOHM-0603-1/10W-1%
designator R?, comment 3.9kÎ© resistor    A resistor is a passive two-terminal electrical component that implements electrical resistance as a circuit element. Resistors act to reduce current flow, and, at the same time, act to lower voltage levels within circuits. - Wikipedia
GateName_1: G$1; DeviceName: -0603-1/10W-1%; DeviceSetName: 3.9KOHM; PROD_ID: RES-08701; SymbolName_1: RESISTOR; LibraryName: SparkFun-Resistors; Package: 0603
footprint 0603
pins: 1, 2

## 3.9OHM-0402-TIGHT-1/16W-1%
designator R?, comment 3.9Î© resistor    A resistor is a passive two-terminal electrical component that implements electrical resistance as a circuit element. Resistors act to reduce current flow, and, at the same time, act to lower voltage levels within circuits. - Wikipedia
GateName_1: G$1; DeviceName: -0402-TIGHT-1/16W-1%; DeviceSetName: 3.9OHM; PROD_ID: RES-15270; SymbolName_1: RESISTOR; LibraryName: SparkFun-Resistors; Package: 0402-TIGHT
footprint 0402-TIGHT
pins: 1, 2

## 4.3KOHM-0402
designator ?
GateName_1: G$1; SymbolName_1: RESISTOR; DeviceName: -0402; DeviceSetName: 4.3KOHM; PROD_ID: RES-14355; LibraryName: SparkFun-Resistors; Package: 0402_MURATA
footprint 0402_MURATA
pins: P$1 1, P$2 2

## 4.7KOHM-0402T-1/16W-1%
designator R?, comment 4.7kÎ© resistor    A resistor is a passive two-terminal electrical component that implements electrical resistance as a circuit element. Resistors act to reduce current flow, and, at the same time, act to lower voltage levels within circuits. - Wikipedia
GateName_1: G$1; DeviceName: -0402T-1/16W-1%; DeviceSetName: 4.7KOHM; PROD_ID: RES-15343; SymbolName_1: RESISTOR; LibraryName: SparkFun-Resistors; Package: 0402-TIGHT
footprint 0402-TIGHT
pins: 1, 2

## 4.7KOHM-0603-1/10W-1%
designator R?, comment 4.7kÎ© resistor    A resistor is a passive two-terminal electrical component that implements electrical resistance as a circuit element. Resistors act to reduce current flow, and, at the same time, act to lower voltage levels within circuits. - Wikipedia
GateName_1: G$1; DeviceName: -0603-1/10W-1%; DeviceSetName: 4.7KOHM; PROD_ID: RES-07857; SymbolName_1: RESISTOR; LibraryName: SparkFun-Resistors; Package: 0603
footprint 0603
pins: 1, 2

## 4.7OHM-0402-1/16W-1%
designator R?, comment 4.7Î© resistor    A resistor is a passive two-terminal electrical component that implements electrical resistance as a circuit element. Resistors act to reduce current flow, and, at the same time, act to lower voltage levels within circuits. - Wikipedia
GateName_1: G$1; DeviceName: -0402-1/16W-1%; DeviceSetName: 4.7OHM; PROD_ID: RES-16312; SymbolName_1: RESISTOR; LibraryName: SparkFun-Resistors; Package: 0402
footprint 0402
pins: 1, 2

## 4.7OHM-0402T-1/16W-1%
designator R?, comment 4.7Î© resistor    A resistor is a passive two-terminal electrical component that implements electrical resistance as a circuit element. Resistors act to reduce current flow, and, at the same time, act to lower voltage levels within circuits. - Wikipedia
GateName_1: G$1; DeviceName: -0402T-1/16W-1%; DeviceSetName: 4.7OHM; PROD_ID: RES-16312; SymbolName_1: RESISTOR; LibraryName: SparkFun-Resistors; Package: 0402-TIGHT
footprint 0402-TIGHT
pins: 1, 2

## 4.7OHM-0603-1/10W-1%
designator R?, comment 4.7Î© resistor    A resistor is a passive two-terminal electrical component that implements electrical resistance as a circuit element. Resistors act to reduce current flow, and, at the same time, act to lower voltage levels within circuits. - Wikipedia
GateName_1: G$1; DeviceName: -0603-1/10W-1%; DeviceSetName: 4.7OHM; PROD_ID: RES-15581; SymbolName_1: RESISTOR; LibraryName: SparkFun-Resistors; Package: 0603
footprint 0603
pins: 1, 2

## 5.1KOHM5.1KOHM-0603-1/10W-1%
designator R?
GateName_1: R1; SymbolName_1: RESISTOR; DeviceName: 5.1KOHM-0603-1/10W-1%; DeviceSetName: 5.1KOHM; PROD_ID: RES-12083; LibraryName: SparkFun-Resistors; Package: 0603
footprint 0603
pins: 1, 2

## 5.1KOHM-0402-1/16W-1%
designator R?
GateName_1: R1; SymbolName_1: RESISTOR; DeviceName: -0402-1/16W-1%; DeviceSetName: 5.1KOHM; PROD_ID: RES-14340; LibraryName: SparkFun-Resistors; Package: 0402
footprint 0402
pins: 1, 2

## 5.1KOHM-0402T-1/16W-1%
designator R?
GateName_1: R1; SymbolName_1: RESISTOR; DeviceName: -0402T-1/16W-1%; DeviceSetName: 5.1KOHM; PROD_ID: RES-14340; LibraryName: SparkFun-Resistors; Package: 0402-TIGHT
footprint 0402-TIGHT
pins: 1, 2

## 5.6KOHM-0603-1/10W-1%
designator R?, comment 5.6kÎ© resistor    A resistor is a passive two-terminal electrical component that implements electrical resistance as a circuit element. Resistors act to reduce current flow, and, at the same time, act to lower voltage levels within circuits. - Wikipedia
GateName_1: G$1; DeviceName: -0603-1/10W-1%; DeviceSetName: 5.6KOHM; PROD_ID: RES-12378; SymbolName_1: RESISTOR; LibraryName: SparkFun-Resistors; Package: 0603
footprint 0603
pins: 1, 2

## 5.62KOHM-0603-1/10W-1%
designator R?, comment 5.62kÎ© resistor    A resistor is a passive two-terminal electrical component that implements electrical resistance as a circuit element. Resistors act to reduce current flow, and, at the same time, act to lower voltage levels within circuits. - Wikipedia
GateName_1: G$1; DeviceName: -0603-1/10W-1%; DeviceSetName: 5.62KOHM; PROD_ID: RES-09823; SymbolName_1: RESISTOR; LibraryName: SparkFun-Resistors; Package: 0603
footprint 0603
pins: 1, 2

## 6.8KOHM-0603-1/10W-1%
designator R?, comment 6.8kÎ© resistor    A resistor is a passive two-terminal electrical component that implements electrical resistance as a circuit element. Resistors act to reduce current flow, and, at the same time, act to lower voltage levels within circuits. - Wikipedia
GateName_1: G$1; DeviceName: -0603-1/10W-1%; DeviceSetName: 6.8KOHM; PROD_ID: RES-08597; SymbolName_1: RESISTOR; LibraryName: SparkFun-Resistors; Package: 0603
footprint 0603
pins: 1, 2

## 8.2KOHM-0603-1/10W-5%
designator R?, comment 8.2kÎ© resistor    A resistor is a passive two-terminal electrical component that implements electrical resistance as a circuit element. Resistors act to reduce current flow, and, at the same time, act to lower voltage levels within circuits. - Wikipedia
GateName_1: G$1; DeviceName: -0603-1/10W-5%; DeviceSetName: 8.2KOHM; PROD_ID: RES-10646; SymbolName_1: RESISTOR; LibraryName: SparkFun-Resistors; Package: 0603
footprint 0603
pins: 1, 2

## 9.76KOHM-0603-1/10W-1%
designator R?, comment 9.76kÎ© resistor    A resistor is a passive two-terminal electrical component that implements electrical resistance as a circuit element. Resistors act to reduce current flow, and, at the same time, act to lower voltage levels within circuits. - Wikipedia
GateName_1: G$1; DeviceName: -0603-1/10W-1%; DeviceSetName: 9.76KOHM; PROD_ID: RES-12534; SymbolName_1: RESISTOR; LibraryName: SparkFun-Resistors; Package: 0603
footprint 0603
pins: 1, 2

## 10.2KOHM-0402-1/16W-1%
designator R?, comment 10.2kÎ© resistor    A resistor is a passive two-terminal electrical component that implements electrical resistance as a circuit element. Resistors act to reduce current flow, and, at the same time, act to lower voltage levels within circuits. - Wikipedia
GateName_1: G$1; DeviceName: -0402-1/16W-1%; DeviceSetName: 10.2KOHM; PROD_ID: RES-16559; SymbolName_1: RESISTOR; LibraryName: SparkFun-Resistors; Package: 0402-TIGHT
footprint 0402-TIGHT
pins: 1, 2

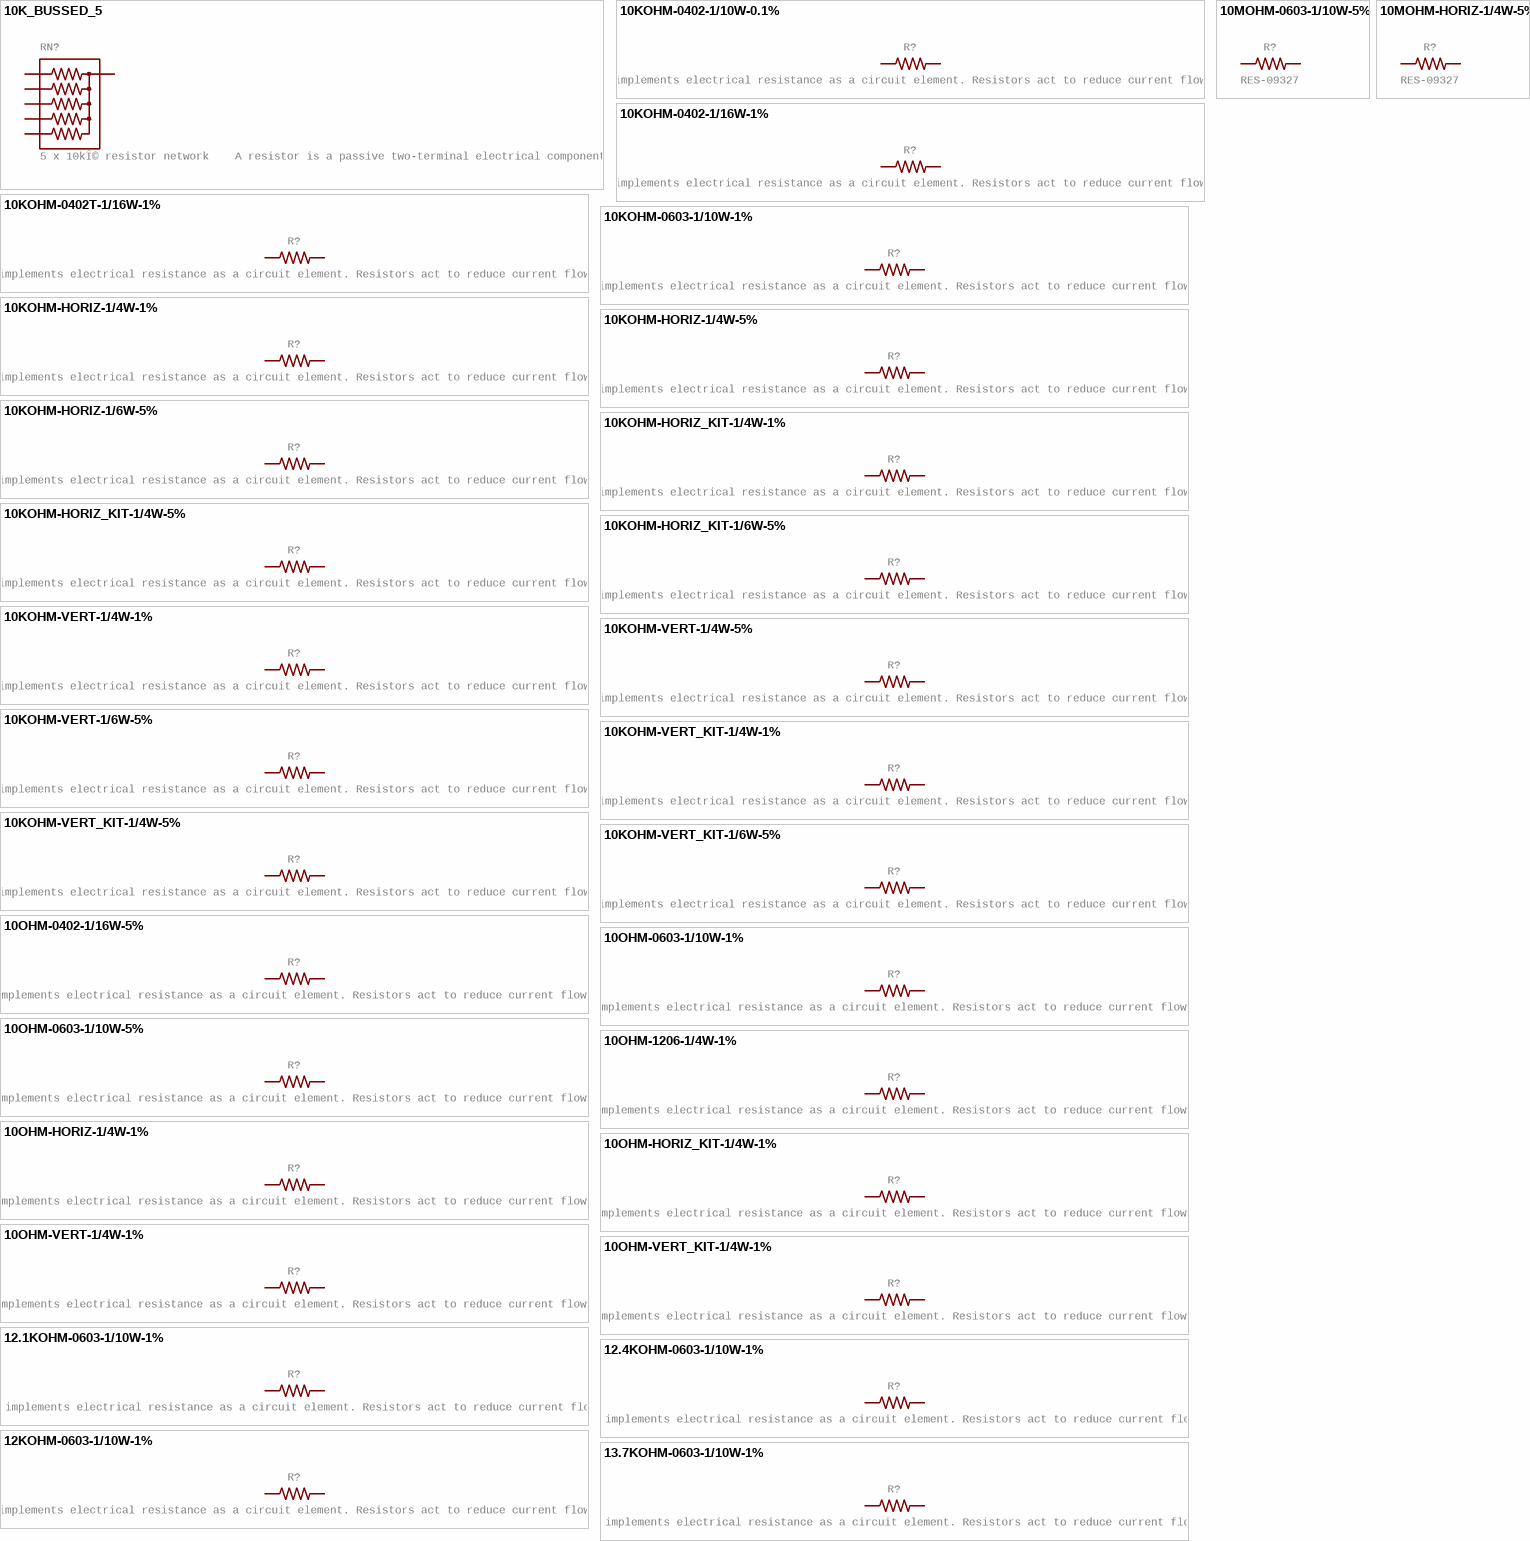
[diagram p3: symbols 10K_BUSSED_5 to 13.7KOHM-0603-1/10W-1%]

## 10K_BUSSED_5
designator RN?, comment 5 x 10kÎ© resistor network    A resistor is a passive two-terminal electrical component that implements electrical resistance as a circuit element. Resistors act to reduce current flow, and, at the same time, act to lower voltage levels within circuits. - Wikipedia   This is a bussed or ladder network.
GateName_1: G$1; SymbolName_1: RPACK-BUSSED-5; DeviceSetName: 10K_BUSSED_5; SF_SKU: COM-10856; LibraryName: SparkFun-Resistors; Package: RPACK-SIP-PTH-5
footprint RPACK-SIP-PTH-5
pins: P$1 1, P$2 2, P$3 3, P$4 4, P$5 5, P$6 6

## 10KOHM-0402-1/10W-0.1%
designator R?, comment 10kÎ© resistor    A resistor is a passive two-terminal electrical component that implements electrical resistance as a circuit element. Resistors act to reduce current flow, and, at the same time, act to lower voltage levels within circuits. - Wikipedia
GateName_1: G$1; DeviceName: -0402-1/10W-0.1%; DeviceSetName: 10KOHM; PROD_ID: RES-16147; SymbolName_1: RESISTOR; LibraryName: SparkFun-Resistors; Package: 0402-TIGHT
footprint 0402-TIGHT
pins: 1, 2

## 10KOHM-0402-1/16W-1%
designator R?, comment 10kÎ© resistor    A resistor is a passive two-terminal electrical component that implements electrical resistance as a circuit element. Resistors act to reduce current flow, and, at the same time, act to lower voltage levels within circuits. - Wikipedia
GateName_1: G$1; DeviceName: -0402-1/16W-1%; DeviceSetName: 10KOHM; PROD_ID: RES-14241; SymbolName_1: RESISTOR; LibraryName: SparkFun-Resistors; Package: 0402
footprint 0402
pins: 1, 2

## 10KOHM-0402T-1/16W-1%
designator R?, comment 10kÎ© resistor    A resistor is a passive two-terminal electrical component that implements electrical resistance as a circuit element. Resistors act to reduce current flow, and, at the same time, act to lower voltage levels within circuits. - Wikipedia
GateName_1: G$1; DeviceName: -0402T-1/16W-1%; DeviceSetName: 10KOHM; PROD_ID: RES-14241; SymbolName_1: RESISTOR; LibraryName: SparkFun-Resistors; Package: 0402-TIGHT
footprint 0402-TIGHT
pins: 1, 2

## 10KOHM-0603-1/10W-1%
designator R?, comment 10kÎ© resistor    A resistor is a passive two-terminal electrical component that implements electrical resistance as a circuit element. Resistors act to reduce current flow, and, at the same time, act to lower voltage levels within circuits. - Wikipedia
GateName_1: G$1; DeviceName: -0603-1/10W-1%; DeviceSetName: 10KOHM; PROD_ID: RES-00824; SymbolName_1: RESISTOR; LibraryName: SparkFun-Resistors; Package: 0603
footprint 0603
pins: 1, 2

## 10KOHM-HORIZ-1/4W-1%
designator R?, comment 10kÎ© resistor    A resistor is a passive two-terminal electrical component that implements electrical resistance as a circuit element. Resistors act to reduce current flow, and, at the same time, act to lower voltage levels within circuits. - Wikipedia
GateName_1: G$1; DeviceName: -HORIZ-1/4W-1%; DeviceSetName: 10KOHM; PROD_ID: RES-12183; SymbolName_1: RESISTOR; LibraryName: SparkFun-Resistors; Package: AXIAL-0.3
footprint AXIAL-0.3
pins: P$1 1, P$2 2

## 10KOHM-HORIZ-1/4W-5%
designator R?, comment 10kÎ© resistor    A resistor is a passive two-terminal electrical component that implements electrical resistance as a circuit element. Resistors act to reduce current flow, and, at the same time, act to lower voltage levels within circuits. - Wikipedia
GateName_1: G$1; DeviceName: -HORIZ-1/4W-5%; DeviceSetName: 10KOHM; PROD_ID: RES-09435; SymbolName_1: RESISTOR; LibraryName: SparkFun-Resistors; Package: AXIAL-0.3
footprint AXIAL-0.3
pins: P$1 1, P$2 2

## 10KOHM-HORIZ-1/6W-5%
designator R?, comment 10kÎ© resistor    A resistor is a passive two-terminal electrical component that implements electrical resistance as a circuit element. Resistors act to reduce current flow, and, at the same time, act to lower voltage levels within circuits. - Wikipedia
GateName_1: G$1; DeviceName: -HORIZ-1/6W-5%; DeviceSetName: 10KOHM; PROD_ID: RES-08375; SymbolName_1: RESISTOR; LibraryName: SparkFun-Resistors; Package: AXIAL-0.3
footprint AXIAL-0.3
pins: P$1 1, P$2 2

## 10KOHM-HORIZ_KIT-1/4W-1%
designator R?, comment 10kÎ© resistor    A resistor is a passive two-terminal electrical component that implements electrical resistance as a circuit element. Resistors act to reduce current flow, and, at the same time, act to lower voltage levels within circuits. - Wikipedia
GateName_1: G$1; DeviceName: -HORIZ_KIT-1/4W-1%; DeviceSetName: 10KOHM; PROD_ID: RES-12183; SymbolName_1: RESISTOR; LibraryName: SparkFun-Resistors; Package: AXIAL-0.3-KIT
footprint AXIAL-0.3-KIT
pins: P$1 1, P$2 2

## 10KOHM-HORIZ_KIT-1/4W-5%
designator R?, comment 10kÎ© resistor    A resistor is a passive two-terminal electrical component that implements electrical resistance as a circuit element. Resistors act to reduce current flow, and, at the same time, act to lower voltage levels within circuits. - Wikipedia
GateName_1: G$1; DeviceName: -HORIZ_KIT-1/4W-5%; DeviceSetName: 10KOHM; PROD_ID: RES-09435; SymbolName_1: RESISTOR; LibraryName: SparkFun-Resistors; Package: AXIAL-0.3-KIT
footprint AXIAL-0.3-KIT
pins: P$1 1, P$2 2

## 10KOHM-HORIZ_KIT-1/6W-5%
designator R?, comment 10kÎ© resistor    A resistor is a passive two-terminal electrical component that implements electrical resistance as a circuit element. Resistors act to reduce current flow, and, at the same time, act to lower voltage levels within circuits. - Wikipedia
GateName_1: G$1; DeviceName: -HORIZ_KIT-1/6W-5%; DeviceSetName: 10KOHM; PROD_ID: RES-08375; SymbolName_1: RESISTOR; LibraryName: SparkFun-Resistors; Package: AXIAL-0.3-KIT
footprint AXIAL-0.3-KIT
pins: P$1 1, P$2 2

## 10KOHM-VERT-1/4W-1%
designator R?, comment 10kÎ© resistor    A resistor is a passive two-terminal electrical component that implements electrical resistance as a circuit element. Resistors act to reduce current flow, and, at the same time, act to lower voltage levels within circuits. - Wikipedia
GateName_1: G$1; DeviceName: -VERT-1/4W-1%; DeviceSetName: 10KOHM; PROD_ID: RES-12183; SymbolName_1: RESISTOR; LibraryName: SparkFun-Resistors; Package: AXIAL-0.1
footprint AXIAL-0.1
pins: P$1 1, P$2 2

## 10KOHM-VERT-1/4W-5%
designator R?, comment 10kÎ© resistor    A resistor is a passive two-terminal electrical component that implements electrical resistance as a circuit element. Resistors act to reduce current flow, and, at the same time, act to lower voltage levels within circuits. - Wikipedia
GateName_1: G$1; DeviceName: -VERT-1/4W-5%; DeviceSetName: 10KOHM; PROD_ID: RES-09435; SymbolName_1: RESISTOR; LibraryName: SparkFun-Resistors; Package: AXIAL-0.1
footprint AXIAL-0.1
pins: P$1 1, P$2 2

## 10KOHM-VERT-1/6W-5%
designator R?, comment 10kÎ© resistor    A resistor is a passive two-terminal electrical component that implements electrical resistance as a circuit element. Resistors act to reduce current flow, and, at the same time, act to lower voltage levels within circuits. - Wikipedia
GateName_1: G$1; DeviceName: -VERT-1/6W-5%; DeviceSetName: 10KOHM; PROD_ID: RES-08375; SymbolName_1: RESISTOR; LibraryName: SparkFun-Resistors; Package: AXIAL-0.1
footprint AXIAL-0.1
pins: P$1 1, P$2 2

## 10KOHM-VERT_KIT-1/4W-1%
designator R?, comment 10kÎ© resistor    A resistor is a passive two-terminal electrical component that implements electrical resistance as a circuit element. Resistors act to reduce current flow, and, at the same time, act to lower voltage levels within circuits. - Wikipedia
GateName_1: G$1; DeviceName: -VERT_KIT-1/4W-1%; DeviceSetName: 10KOHM; PROD_ID: RES-12183; SymbolName_1: RESISTOR; LibraryName: SparkFun-Resistors; Package: AXIAL-0.1-KIT
footprint AXIAL-0.1-KIT
pins: P$1 1, P$2 2

## 10KOHM-VERT_KIT-1/4W-5%
designator R?, comment 10kÎ© resistor    A resistor is a passive two-terminal electrical component that implements electrical resistance as a circuit element. Resistors act to reduce current flow, and, at the same time, act to lower voltage levels within circuits. - Wikipedia
GateName_1: G$1; DeviceName: -VERT_KIT-1/4W-5%; DeviceSetName: 10KOHM; PROD_ID: RES-09435; SymbolName_1: RESISTOR; LibraryName: SparkFun-Resistors; Package: AXIAL-0.1-KIT
footprint AXIAL-0.1-KIT
pins: P$1 1, P$2 2

## 10KOHM-VERT_KIT-1/6W-5%
designator R?, comment 10kÎ© resistor    A resistor is a passive two-terminal electrical component that implements electrical resistance as a circuit element. Resistors act to reduce current flow, and, at the same time, act to lower voltage levels within circuits. - Wikipedia
GateName_1: G$1; DeviceName: -VERT_KIT-1/6W-5%; DeviceSetName: 10KOHM; PROD_ID: RES-08375; SymbolName_1: RESISTOR; LibraryName: SparkFun-Resistors; Package: AXIAL-0.1-KIT
footprint AXIAL-0.1-KIT
pins: P$1 1, P$2 2

## 10MOHM-0603-1/10W-5%
designator R?, comment RES-09327
GateName_1: G$1; SymbolName_1: RESISTOR; DeviceName: -0603-1/10W-5%; DeviceSetName: 10MOHM; PROD_ID: RES-08283; LibraryName: SparkFun-Resistors; Package: 0603
footprint 0603
pins: 1, 2